# EAGLE library part DW01 (library DW01)
ic Source: Datasheet <https://datasheet.lcsc.com/szlcsc/1906271838_SLKORMICRO-Elec-DW01_C359989.pdf>
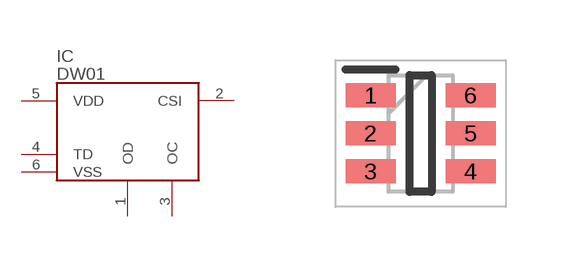
[diagram p0: symbol with the pads of SOT95P280X135-6N; footprint SOT95P280X135-6N]

Designator prefix IC

## DW01 (DESCRIPTION: ic; HEIGHT: 1.35mm; MANUFACTURER_NAME: Slkor; MANUFACTURER_PART_NUMBER: DW01)  [SOT95P280X135-6N]
1  OD
2  CSI
3  OC
4  TD
5  VDD
6  VSS

## Footprint SOT95P280X135-6N (pad centres in mm)
SOT2-23-6
smd 1.25 x 0.6: 1 -1.25,0.95; 2 -1.25,0; 3 -1.25,-0.95; 4 1.25,-0.95; 5 1.25,0; 6 1.25,0.95